# Altium footprint library BLDC_Gimbal.PcbLib: 37 footprints (part 1 of 3)
Each footprint in its own frame and in the unit in brackets; x right, y up, seen from the top. Pads: shape width x height; smd on the part's side, far side on the other; paste and mask are expansions set on the pad; w line width, h text height; cw(c..) or ccw(c..) is an arc to the next point about the centre after c.
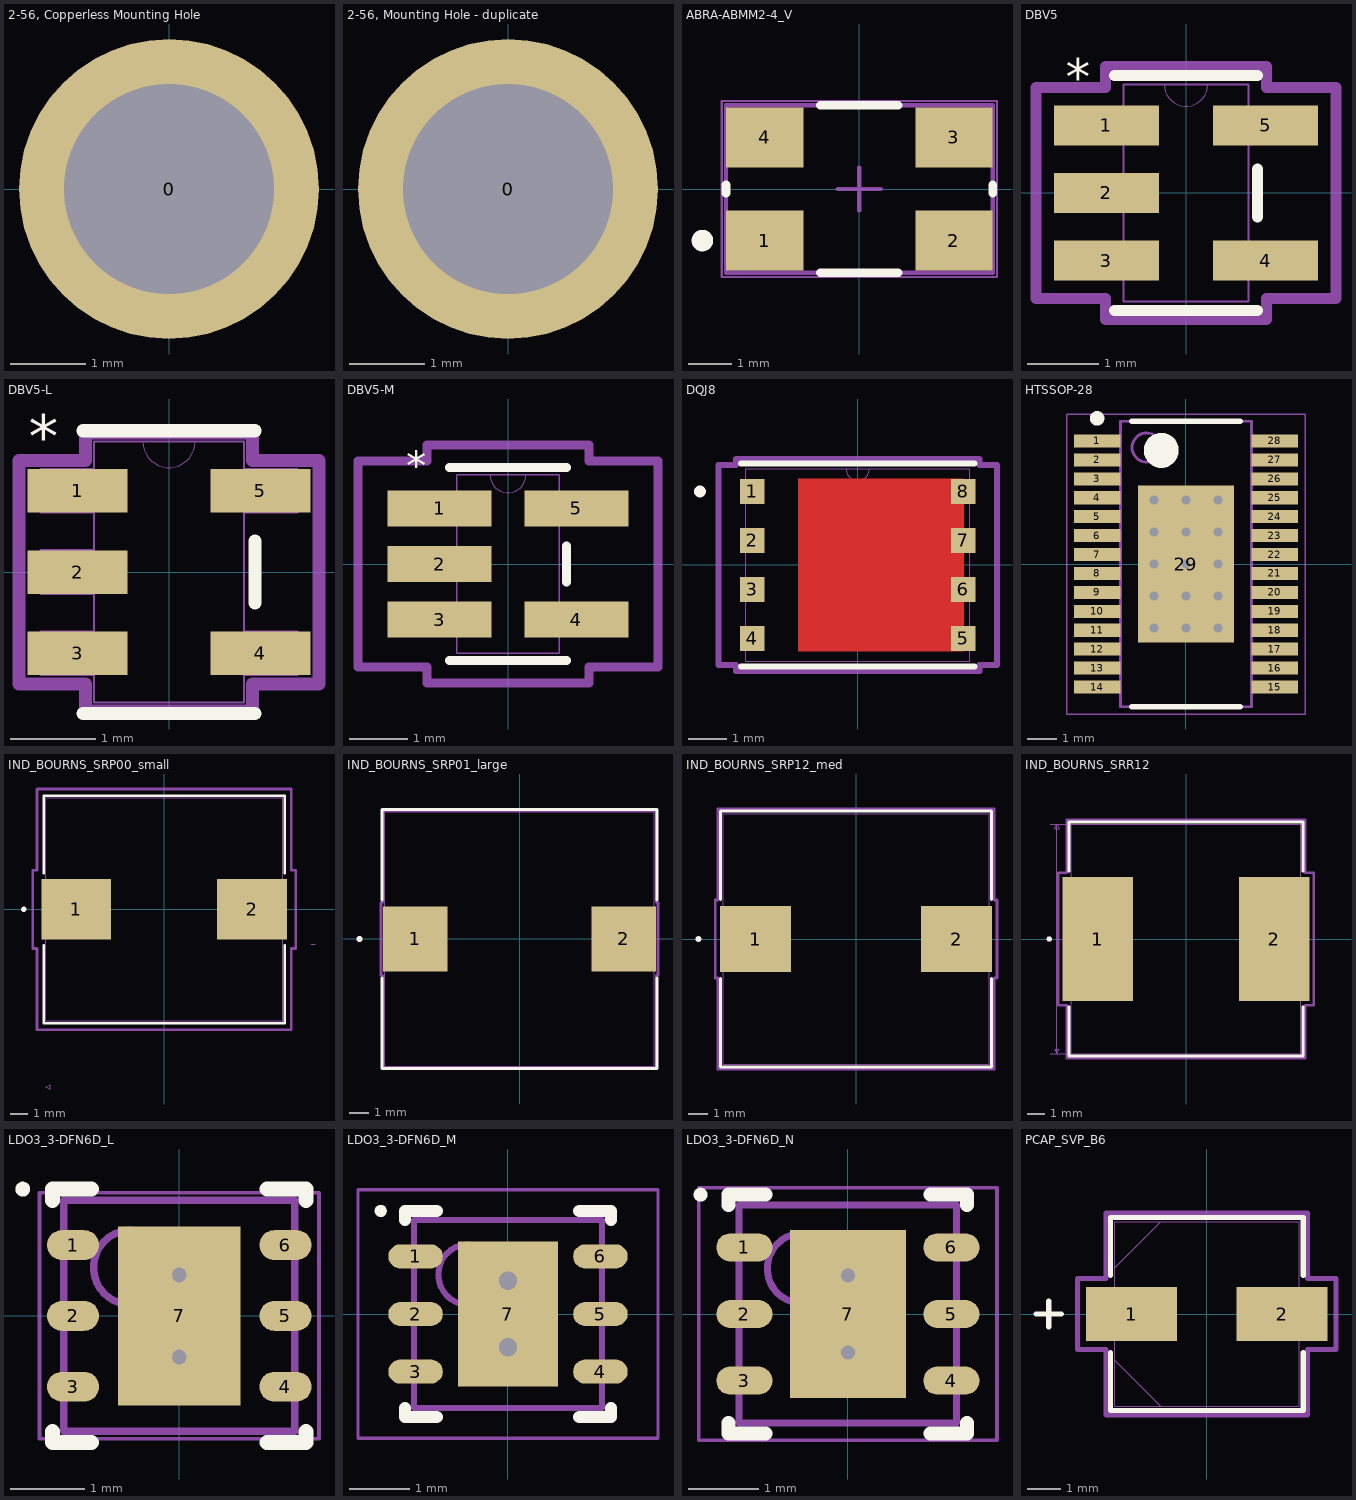
[diagram p0: the footprints below, top view; thin cyan lines are the x and y axes]

## 2-56, Copperless Mounting Hole [mm] "2.44mm Dia, 2.8mm Max, Mounting Hole"
pads (1):
  round 4 hole 2.8: 0(0,0)

## 2-56, Mounting Hole - duplicate [mm] "2.44mm Dia, 2.8mm Max, Mounting Hole"
pads (1):
  round 4 hole 2.8: 0(0,0)

## ABRA-ABMM2-4_V [mm] "SMD, 4-Leads, Body 6.2x3.9mm, Pitch 4.4mm, Height 1.2mm"
height 1.2
pads (4):
  rect 1.8x1.4 smd: 1(-2.2,-1.2) 2(2.2,-1.2) 3(2.2,1.2) 4(-2.2,1.2)
Top Overlay:
  circle w0.25: c-3.65,-1.2 r0.125
  lines w0.2: -3.1,-0.1 -3.1,0.1 ; -0.903,-1.95 0.903,-1.95 ; -0.903,1.95 0.903,1.95 ; 3.1,-0.1 3.1,0.1
Mechanical 13:
  lines w0.1: -3.1,-1.95 -3.1,1.95 3.1,1.95 3.1,-1.95 -3.1,-1.95
Mechanical 15:
  lines w0.05: -3.2,-2.05 3.2,-2.05 3.2,2.05 -3.2,2.05 -3.2,-2.05
  lines w0.1: -0.5,0 0.5,0 ; 0,-0.5 0,0.5
3D body: height 1.2, standoff 0, extent -3.1,-1.95 3.1,1.95

## DBV5 [mil]
pads (5):
  rect 58x22 smd paste+0 mask+0: 1(-44,37.4) 2(-44,0) 3(-44,-37.4) 4(44,-37.4) 5(44,37.4)
Top Overlay:
  lines w6: -39.5,-65 39.5,-65 ; -39.5,65 39.5,65 ; 39.5,-13.3 39.5,13.3
  text "*" at -66.5,54.4 h20
Mechanical 13:
  lines w0: -12,60 ccw(c0,60) 12,60
  lines w1: -59,-47.4 -59,-27.4 -34.5,-27.4 -34.5,-47.4 -59,-47.4 ; -59,-10 -59,10 -34.5,10 -34.5,-10 -59,-10 ; -59,27.4 -59,47.4 -34.5,47.4 -34.5,27.4 -59,27.4 ; -34.5,-60 34.5,-60 34.5,60 -34.5,60 -34.5,-60 ; 34.5,-47.4 34.5,-27.4 59,-27.4 59,-47.4 34.5,-47.4 ; 34.5,27.4 34.5,47.4 59,47.4 59,27.4 34.5,27.4
  text "*" at -37,16.4 h50
Mechanical 15:
  lines w6: -83,-58.4 -44.5,-58.4 -44.5,-70 44.5,-70 44.5,-58.4 83,-58.4 83,58.4 44.5,58.4 44.5,70 -44.5,70 -44.5,58.4 -83,58.4 -83,-58.4
3D body: height 10, standoff 0, extent 0,0 10,10
3D body "DBV5.step": height 57.09, standoff 0, extent -59.01,-60 59.02,60

## DBV5-L [mil]
pads (5):
  rect 46x20 smd paste+0 mask+0: 1(-42,37.4) 2(-42,0) 3(-42,-37.4) 4(42,-37.4) 5(42,37.4)
Top Overlay:
  lines w6: -39.5,-65 39.5,-65 ; -39.5,65 39.5,65 ; 39.5,-14.3 39.5,14.3
  text "*" at -64.5,52.4 h20
Mechanical 13:
  lines w0: -12,60 ccw(c0,60) 12,60
  lines w1: -59,-47.4 -59,-27.4 -34.5,-27.4 -34.5,-47.4 -59,-47.4 ; -59,-10 -59,10 -34.5,10 -34.5,-10 -59,-10 ; -59,27.4 -59,47.4 -34.5,47.4 -34.5,27.4 -59,27.4 ; -34.5,-60 34.5,-60 34.5,60 -34.5,60 -34.5,-60 ; 34.5,-47.4 34.5,-27.4 59,-27.4 59,-47.4 34.5,-47.4 ; 34.5,27.4 34.5,47.4 59,47.4 59,27.4 34.5,27.4
  text "*" at -37,14.4 h50
Mechanical 15:
  lines w6: -69,-51.4 -38.5,-51.4 -38.5,-64 38.5,-64 38.5,-51.4 69,-51.4 69,51.4 38.5,51.4 38.5,64 -38.5,64 -38.5,51.4 -69,51.4 -69,-51.4
3D body: height 10, standoff 0, extent 0,0 10,10
3D body "DBV5-L.step": height 57.09, standoff 0, extent -59.01,-59.99 59.02,60.01

## DBV5-M [mil]
pads (5):
  rect 70x24 smd paste+0 mask+0: 1(-46,37.4) 2(-46,0) 3(-46,-37.4) 4(46,-37.4) 5(46,37.4)
Top Overlay:
  lines w6: -39.5,-65 39.5,-65 ; -39.5,65 39.5,65 ; 39.5,-12.3 39.5,12.3
  text "*" at -68.5,56.4 h20
Mechanical 13:
  lines w0: -12,60 ccw(c0,60) 12,60
  lines w1: -59,-47.4 -59,-27.4 -34.5,-27.4 -34.5,-47.4 -59,-47.4 ; -59,-10 -59,10 -34.5,10 -34.5,-10 -59,-10 ; -59,27.4 -59,47.4 -34.5,47.4 -34.5,27.4 -59,27.4 ; -34.5,-60 34.5,-60 34.5,60 -34.5,60 -34.5,-60 ; 34.5,-47.4 34.5,-27.4 59,-27.4 59,-47.4 34.5,-47.4 ; 34.5,27.4 34.5,47.4 59,47.4 59,27.4 34.5,27.4
  text "*" at -37,18.4 h50
Mechanical 15:
  lines w6: -101,-69.4 -54.5,-69.4 -54.5,-80 54.5,-80 54.5,-69.4 101,-69.4 101,69.4 54.5,69.4 54.5,80 -54.5,80 -54.5,69.4 -101,69.4 -101,-69.4
3D body: height 10, standoff 0, extent 0,0 10,10
3D body "DBV5-M.step": height 57.09, standoff 0, extent -59.01,-59.99 59.02,60.01

## DQJ8 [mm]
pads (8):
  rect 0.63x0.65 smd paste-0.1: 1(-2.735,1.905) 2(-2.735,0.635) 3(-2.735,-0.635) 4(-2.735,-1.905) 5(2.735,-1.905) 6(2.735,-0.635) 7(2.735,0.635) 8(2.735,1.905)
Top Layer:
  region: 2.745,0 2.745,-2.23 -1.545,-2.23 -1.545,0
  region: 2.745,0 2.745,2.23 -1.545,2.23 -1.545,0
Top Overlay:
  circle w0.152: c-4.091,1.905 r0.076
  lines w0.152: -3.027,-2.627 3.027,-2.627 ; -3.027,2.627 3.027,2.627
Top Paste:
  region: -0.18,-1.88 -0.18,-0.31 -1.415,-0.31 -1.415,-1.88
  region: -0.18,1.88 -0.18,0.31 -1.415,0.31 -1.415,1.88
  region: 0.32,1.88 0.32,0.31 1.905,0.31 1.905,1.88
  region: 0.32,-1.88 0.32,-0.31 1.905,-0.31 1.905,-1.88
Top Solder:
  region: 2.745,0 2.745,-2.23 -1.545,-2.23 -1.545,0
  region: 2.745,0 2.745,2.23 -1.545,2.23 -1.545,0
  region: 3.12,2.3 2.35,2.3 2.35,1.51 3.12,1.51
  region: 3.12,1.03 2.35,1.03 2.35,0.24 3.12,0.24
  region: 3.12,-0.24 2.35,-0.24 2.35,-1.03 3.12,-1.03
  region: 3.12,-1.51 2.35,-1.51 2.35,-2.3 3.12,-2.3
  region: -2.35,-1.51 -3.12,-1.51 -3.12,-2.3 -2.35,-2.3
  region: -2.35,-0.24 -3.12,-0.24 -3.12,-1.03 -2.35,-1.03
  region: -2.35,1.03 -3.12,1.03 -3.12,0.24 -2.35,0.24
  region: -2.35,2.3 -3.12,2.3 -3.12,1.51 -2.35,1.51
Mechanical 13:
  circle w0: c-2.725,1.905 r0.076
  lines w0: -0.305,2.5 ccw(c0,2.5) 0.305,2.5
  lines w0.025: -2.9,-2.5 -2.9,2.5 2.9,2.5 2.9,-2.5 -2.9,-2.5
Mechanical 15:
  lines w0.152: -3.609,-2.591 -3.154,-2.591 -3.154,-2.754 3.154,-2.754 3.154,-2.591 3.609,-2.591 3.609,2.591 3.154,2.591 3.154,2.754 -3.154,2.754 -3.154,2.591 -3.609,2.591 -3.609,-2.591
3D body: height 0.25, standoff 0, extent 0,0 0.254,0.254

## HTSSOP-28 [mm] "TSOP, 28-Leads, Body 9.70x4.40mm, Pitch 0.65mm, Thermal Pad 5.18x3.10mm, IPC Medium Density"
height 1.2
pads (29):
  rect 1.6x0.45 smd: 1(-3.05,4.225) 2(-3.05,3.575) 3(-3.05,2.925) 4(-3.05,2.275) 5(-3.05,1.625) 6(-3.05,0.975) 7(-3.05,0.325) 8(-3.05,-0.325) 9(-3.05,-0.975) 10(-3.05,-1.625) 11(-3.05,-2.275) 12(-3.05,-2.925) 13(-3.05,-3.575) 14(-3.05,-4.225) 15(3.05,-4.225) 16(3.05,-3.575) 17(3.05,-2.925) 18(3.05,-2.275) 19(3.05,-1.625) 20(3.05,-0.975) 21(3.05,-0.325) 22(3.05,0.325) 23(3.05,0.975) 24(3.05,1.625) 25(3.05,2.275) 26(3.05,2.925) 27(3.05,3.575) 28(3.05,4.225)
  rect 3.3x5.4 smd: 29(0,0)
via 0,-1.1 diameter 0.6 hole 0.3
via -1.1,-1.1 diameter 0.6 hole 0.3
via -1.1,0 diameter 0.6 hole 0.3
via -1.1,-2.2 diameter 0.6 hole 0.3
via 0,-2.2 diameter 0.6 hole 0.3
via 1.1,-2.2 diameter 0.6 hole 0.3
via 1.1,-1.1 diameter 0.6 hole 0.3
via 1.1,0 diameter 0.6 hole 0.3
via -1.1,1.1 diameter 0.6 hole 0.3
via 1.1,1.1 diameter 0.6 hole 0.3
via 0,1.1 diameter 0.6 hole 0.3
via -1.1,2.2 diameter 0.6 hole 0.3
via 0,2.2 diameter 0.6 hole 0.3
via 0,0 diameter 0.6 hole 0.3
via 1.1,2.2 diameter 0.6 hole 0.3
Top Overlay:
  circle w0.6: c-0.85,3.9 r0.3
  circle w0.25: c-3.05,5 r0.125
  lines w0.2: -1.85,-4.9 1.85,-4.9 ; -1.85,4.9 1.85,4.9
Mechanical 13:
  circle w0.1: c-1.35,4 r0.5
  lines w0.1: -2.25,-4.9 2.25,-4.9 2.25,4.9 -2.25,4.9 -2.25,-4.9
Mechanical 15:
  lines w0.05: -4.1,-5.15 4.1,-5.15 4.1,5.15 -4.1,5.15 -4.1,-5.15
  lines w0.1: -0.5,0 0.5,0 ; 0,-0.5 0,0.5
3D body: height 1.2, standoff 0.05, extent -2.25,-4.9 2.25,4.9

## IND_BOURNS_SRP00_small [mil]
pads (2):
  rect 159x138 smd paste+0 mask+0: 1(-200,0) 2(200,0)
Top Overlay:
  circle w6: c-319.5,0 r3
  lines w6: -274.5,-82.1 -274.5,-259 274.5,-259 274.5,-82.1 ; -274.5,82.1 -274.5,259 274.5,259 274.5,82.1
Mechanical 7:
  lines w1: 334.5,-79 344.5,-79 ; -269.5,-404 -259.5,-409 -259.5,-399 -269.5,-404
Mechanical 13:
  circle w0: c-249.5,0 r3
  lines w1: -269.5,-254 -269.5,254 269.5,254 269.5,-254 -269.5,-254
Mechanical 15:
  lines w6: -299.5,-89 -289.5,-89 -289.5,-274 289.5,-274 289.5,-89 299.5,-89 299.5,89 289.5,89 289.5,274 -289.5,274 -289.5,89 -299.5,89 -299.5,-89
3D body "IND_BOURNS_SRP1270.step": height 277.99, standoff 0, extent -269.48,-254.01 269.49,254.02
3D body: height 10, standoff 0, extent 0,0 10,10

## IND_BOURNS_SRP01_large [mil]
pads (2):
  rect 129x130 smd paste+0 mask+0: 1(-208,0) 2(208,0)
Top Overlay:
  circle w6: c-319.5,0 r3
  lines w6: -274.5,-77.95 -274.5,-259 274.5,-259 274.5,-77.95 ; -274.5,77.95 -274.5,259 274.5,259 274.5,77.95
Mechanical 13:
  circle w0: c-249.5,0 r3
  lines w1: -269.5,-254 -269.5,254 269.5,254 269.5,-254 -269.5,-254
Mechanical 15:
  lines w6: -276.5,-73 -273.5,-73 -273.5,-258 273.5,-258 273.5,-73 276.5,-73 276.5,73 273.5,73 273.5,258 -273.5,258 -273.5,73 -276.5,73 -276.5,-73
3D body "IND_BOURNS_SRP1270-L.step": height 277.99, standoff 0, extent -269.48,-254.01 269.5,254.02
3D body: height 10, standoff 0, extent 0,0 10,10

## IND_BOURNS_SRP12_med [mil]
pads (2):
  rect 144x134 smd paste+0 mask+0: 1(-203.5,0) 2(203.5,0)
Top Overlay:
  circle w6: c-319.5,0 r3
  lines w6: -274.5,-80.1 -274.5,-259 274.5,-259 274.5,-80.1 ; -274.5,80.1 -274.5,259 274.5,259 274.5,80.1
Mechanical 13:
  circle w0: c-249.5,0 r3
  lines w1: -269.5,-254 269.5,-254 269.5,254 -269.5,254 -269.5,-254
Mechanical 15:
  lines w6: -285.5,-79 -285.5,79 -279.5,79 -279.5,264 279.5,264 279.5,79 285.5,79 285.5,-79 279.5,-79 279.5,-264 -279.5,-264 -279.5,-79 -285.5,-79
3D body "IND_BOURNS_SRR1208.step": height 335, standoff 0, extent -255.98,-256.1 255.99,256.11
3D body: height 10, standoff 0, extent 0,0 10,10

## IND_BOURNS_SRR12 [mil]
pads (2):
  rect 157x276 smd paste+0 mask+0: 1(-196.5,0) 2(196.5,0)
Top Overlay:
  circle w6: c-305,0 r3
  lines w6: -261,-151.1 -261,-261 261,-261 261,-151.1 ; -261,151.1 -261,261 261,261 261,151.1
Mechanical 7:
  lines w1: -303,-256 266,-256 ; -303,256 266,256 ; -288,-256 -288,256 ; -288,-256 -293,-246 -283,-246 -288,-256 ; -288,256 -293,246 -283,246 -288,256
Mechanical 13:
  circle w0: c-253,0 r3
  lines w1: -256,-256 256,-256 256,256 -256,256 -256,-256
Mechanical 15:
  lines w6: -285,-148 -285,148 -266,148 -266,266 266,266 266,148 285,148 285,-148 266,-148 266,-266 -266,-266 -266,-148 -285,-148
3D body "IND_BOURNS_SRR1208.step": height 335, standoff 0, extent -255.98,-256.1 255.99,256.11
3D body: height 10, standoff 0, extent 0,0 10,10

## LDO3_3-DFN6D_L [mm] "SON, 6-Leads, Body 3x3mm, Pitch 0.95mm, Thermal Pad 2.4x1.65mm, IPC High Density"
height 0.95
pads (7):
  oval 0.7x0.4 smd: 1(-1.425,0.95) 2(-1.425,0) 3(-1.425,-0.95) 4(1.425,-0.95) 5(1.425,0) 6(1.425,0.95)
  rect 1.65x2.4 smd: 7(0,0)
via 0,0.55 diameter 0.5 hole 0.2
via 0,-0.55 diameter 0.5 hole 0.2
Top Overlay:
  circle w0.1: c-2.1,1.7 r0.05
  lines w0.2: -1.7,-1.55 -1.7,-1.7 -1.175,-1.7 ; -1.7,1.55 -1.7,1.7 -1.175,1.7 ; 1.175,-1.7 1.7,-1.7 1.7,-1.55 ; 1.175,1.7 1.7,1.7 1.7,1.55
Mechanical 13:
  circle w0.1: c-0.65,0.65 r0.5
  lines w0.1: -1.55,-1.55 -1.55,1.55 1.55,1.55 1.55,-1.55 -1.55,-1.55
Mechanical 15:
  lines w0.05: -1.875,-1.65 -1.875,1.65 1.875,1.65 1.875,-1.65 -1.875,-1.65
  lines w0.1: -0.5,0 0.5,0 ; 0,-0.5 0,0.5
3D body: height 0.95, standoff 0, extent -1.55,-1.55 1.55,1.55

## LDO3_3-DFN6D_M [mm] "SON, 6-Leads, Body 3x3mm, Pitch 0.95mm, Thermal Pad 2.4x1.65mm, IPC Low Density"
height 0.95
pads (7):
  oval 0.9x0.4 smd: 1(-1.525,0.95) 2(-1.525,0) 3(-1.525,-0.95) 4(1.525,-0.95) 5(1.525,0) 6(1.525,0.95)
  rect 1.65x2.4 smd: 7(0,0)
via 0,-0.55 diameter 0.6 hole 0.3
via 0,0.55 diameter 0.6 hole 0.3
Top Overlay:
  circle w0.1: c-2.1,1.7 r0.05
  lines w0.2: -1.7,-1.55 -1.7,-1.7 -1.175,-1.7 ; -1.7,1.55 -1.7,1.7 -1.175,1.7 ; 1.175,-1.7 1.7,-1.7 1.7,-1.55 ; 1.175,1.7 1.7,1.7 1.7,1.55
Mechanical 13:
  circle w0.1: c-0.65,0.65 r0.5
  lines w0.1: -1.55,-1.55 1.55,-1.55 1.55,1.55 -1.55,1.55 -1.55,-1.55
Mechanical 15:
  lines w0.05: -2.475,-2.05 2.475,-2.05 2.475,2.05 -2.475,2.05 -2.475,-2.05
  lines w0.1: -0.5,0 0.5,0 ; 0,-0.5 0,0.5
3D body: height 0.95, standoff 0, extent -1.55,-1.55 1.55,1.55

## LDO3_3-DFN6D_N [mm] "SON, 6-Leads, Body 3x3mm, Pitch 0.95mm, Thermal Pad 2.4x1.65mm, IPC Medium Density"
height 0.95
pads (7):
  oval 0.8x0.4 smd: 1(-1.475,0.95) 2(-1.475,0) 3(-1.475,-0.95) 4(1.475,-0.95) 5(1.475,0) 6(1.475,0.95)
  rect 1.65x2.4 smd: 7(0,0)
via 0,-0.55 diameter 0.5 hole 0.2
via 0,0.55 diameter 0.5 hole 0.2
Top Overlay:
  circle w0.1: c-2.1,1.7 r0.05
  lines w0.2: -1.7,-1.55 -1.7,-1.7 -1.175,-1.7 ; -1.7,1.55 -1.7,1.7 -1.175,1.7 ; 1.175,-1.7 1.7,-1.7 1.7,-1.55 ; 1.175,1.7 1.7,1.7 1.7,1.55
Mechanical 13:
  circle w0.1: c-0.65,0.65 r0.5
  lines w0.1: -1.55,-1.55 1.55,-1.55 1.55,1.55 -1.55,1.55 -1.55,-1.55
Mechanical 15:
  lines w0.05: -2.125,-1.8 2.125,-1.8 2.125,1.8 -2.125,1.8 -2.125,-1.8
  lines w0.1: -0.5,0 0.5,0 ; 0,-0.5 0,0.5
3D body: height 0.95, standoff 0, extent -1.55,-1.55 1.55,1.55

## PCAP_SVP_B6 [mil]
pads (2):
  rect 107x64 smd paste+0 mask+0: 1(-88.5,0) 2(88.5,0)
Top Overlay:
  lines w6: -201,0 -171,0 ; -186,-15 -186,15 ; -113.5,-45.1 -113.5,-113.5 113.5,-113.5 113.5,-45.1 ; -113.5,45.1 -113.5,113.5 113.5,113.5 113.5,45.1
Mechanical 13:
  lines w1: -201,0 -171,0 ; -186,-15 -186,15 ; -108.5,-54.25 -54.25,-108.5 ; -108.5,54.25 -54.25,108.5 ; -108.5,-108.5 108.5,-108.5 108.5,108.5 -108.5,108.5 -108.5,-108.5
Mechanical 15:
  lines w6: -152,-42 -152,42 -118.5,42 -118.5,118.5 118.5,118.5 118.5,42 152,42 152,-42 118.5,-42 118.5,-118.5 -118.5,-118.5 -118.5,-42 -152,-42
3D body "PCAP_SVP_B6.step": height 238.11, standoff 0, extent -122,-108.5 122.01,108.51
3D body: height 10, standoff 0, extent 0,0 10,10